# EAGLE library part 2X8_HEADER (library quentin)
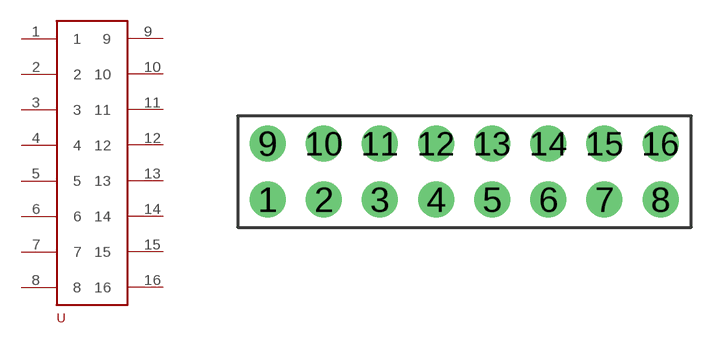
[diagram p21: symbol with the pads of 2X8_THROUGH_HOLE_.1'; footprint 2X8_THROUGH_HOLE_.1']

Designator prefix -

## 2X8_HEADER  [2X8_THROUGH_HOLE_.1']
1  1
2  2
3  3
4  4
5  5
6  6
7  7
8  8
9  9
10  10
11  11
12  12
13  13
14  14
15  15
16  16

## Footprint 2X8_THROUGH_HOLE_.1' (pad centres in mm)
drill 1.02 pad 1.63: 1 0,0; 2 2.54,0; 3 5.08,0; 4 7.62,0; 5 10.16,0; 6 12.7,0; 7 15.24,0; 8 17.78,0; 9 0,2.54; 10 2.54,2.54; 11 5.08,2.54; 12 7.62,2.54; 13 10.16,2.54; 14 12.7,2.54; 15 15.24,2.54; 16 17.78,2.54